# EAGLE library part ADM3078E (library ADM3078E)
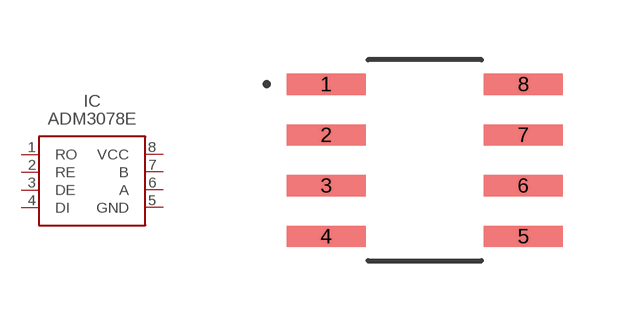
[diagram p0: symbol with the pads of ADM3078E; footprint ADM3078E]

Designator prefix IC

## ADM3078E  [ADM3078E]
1  RO
2  RE
3  DE
4  DI
5  GND
6  A
7  B
8  VCC

## Footprint ADM3078E (pad centres in mm)
smd 1.981 x 0.533: 1 -2.464,1.905; 2 -2.464,0.635; 3 -2.464,-0.635; 4 -2.464,-1.905; 5 2.464,-1.905; 6 2.464,-0.635; 7 2.464,0.635; 8 2.464,1.905